# EAGLE library part ESP32-S3-WROOM-1 (library SIH26113_Maternity_Assist_Belt)
Espressif ESP32-S3-WROOM-1-N8R2. Xtensa LX7 dual-core, Wi-Fi b/g/n + Bluetooth LE 5, 8 MB flash, 2 MB quad-SPI PSRAM, PCB antenna. Pin map from datasheet v1.8 Table 3-1. IO35/36/37 are free on the -N8R2 (quad PSRAM) variant only.
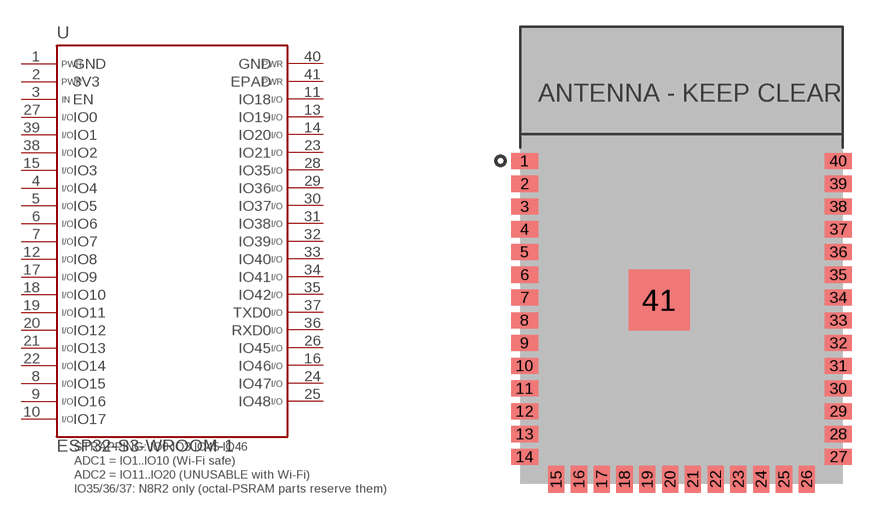
[diagram p0: symbol with the pads of ESP32-S3-WROOM-1; footprint ESP32-S3-WROOM-1]

Designator prefix U

## ESP32-S3-WROOM-1  [ESP32-S3-WROOM-1]
1  GND  pwr
2  3V3  pwr
3  EN  in
4  IO4
5  IO5
6  IO6
7  IO7
8  IO15
9  IO16
10  IO17
11  IO18
12  IO8
13  IO19
14  IO20
15  IO3
16  IO46
17  IO9
18  IO10
19  IO11
20  IO12
21  IO13
22  IO14
23  IO21
24  IO47
25  IO48
26  IO45
27  IO0
28  IO35
29  IO36
30  IO37
31  IO38
32  IO39
33  IO40
34  IO41
35  IO42
36  RXD0
37  TXD0
38  IO2
39  IO1
40  GND  pwr
41  EPAD  pwr

## Footprint ESP32-S3-WROOM-1 (pad centres in mm)
Espressif ESP32-S3-WROOM-1 module land pattern. Source: ESP32-S3-WROOM-1/1U datasheet v1.8 Fig.11-1 + Fig.10-1. 40 lands 1.5x0.9 mm, 1.27 mm pitch, 17.5 mm row spacing, pin 1 at 7.49 mm from the antenna edge. 6 mm antenna keepout at +Y.
smd 1.5 x 0.9: 1 -8.75,5.26; 2 -8.75,3.99; 3 -8.75,2.72; 4 -8.75,1.45; 5 -8.75,0.18; 6 -8.75,-1.09; 7 -8.75,-2.36; 8 -8.75,-3.63; 9 -8.75,-4.9; 10 -8.75,-6.17; 11 -8.75,-7.44; 12 -8.75,-8.71; 13 -8.75,-9.98; 14 -8.75,-11.25; 27 8.75,-11.25; 28 8.75,-9.98; 29 8.75,-8.71; 30 8.75,-7.44; 31 8.75,-6.17; 32 8.75,-4.9; 33 8.75,-3.63; 34 8.75,-2.36; 35 8.75,-1.09; 36 8.75,0.18; 37 8.75,1.45; 38 8.75,2.72; 39 8.75,3.99; 40 8.75,5.26
smd 0.9 x 1.5: 15 -6.985,-12.5; 16 -5.715,-12.5; 17 -4.445,-12.5; 18 -3.175,-12.5; 19 -1.905,-12.5; 20 -0.635,-12.5; 21 0.635,-12.5; 22 1.905,-12.5; 23 3.175,-12.5; 24 4.445,-12.5; 25 5.715,-12.5; 26 6.985,-12.5
smd 3.4 x 3.4: 41 -1.25,-2.5